# EAGLE library part FFRYDIAU_LINK (library ElectricNoodleBox)
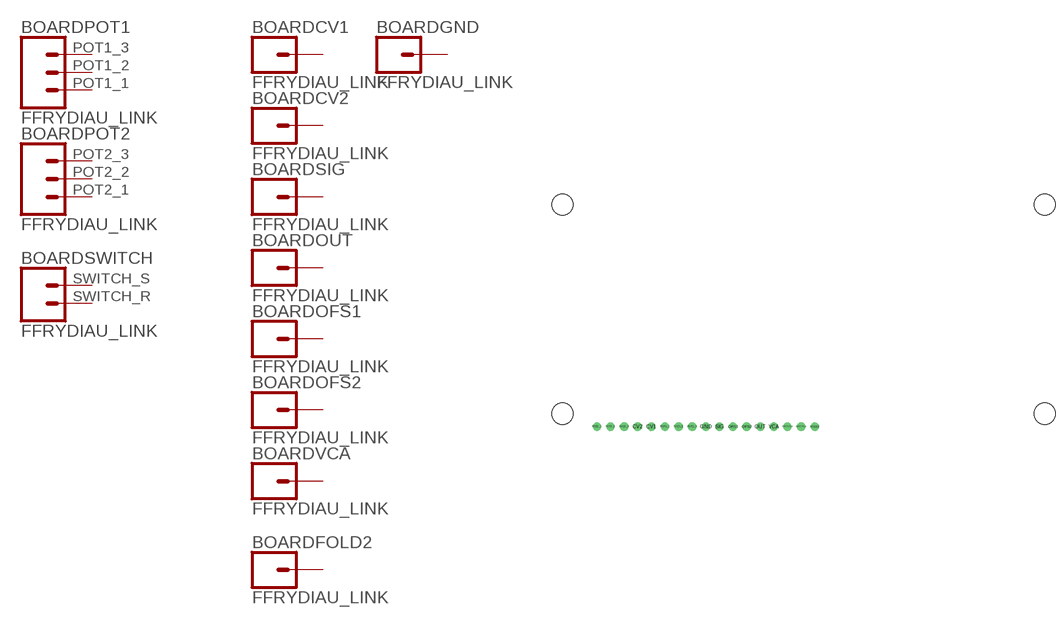
[diagram p26: symbol with the pads of FFRYDIAU; footprint FFRYDIAU]

Designator prefix BOARD; gates POT1=CONN_03 POT2=CONN_03 SWITCH=CONN_02 CV1=CONN_01 CV2=CONN_01 SIG=CONN_01 OUT=CONN_01 OFS1=CONN_01 OFS2=CONN_01 VCA=CONN_01 FOLD2=CONN_01 GND=CONN_01

## FFRYDIAU_LINK  [FFRYDIAU]
CV1  CV1:1  pas
CV2  CV2:1  pas
FOLD2  FOLD2:1  pas
GND  GND:1  pas
OFS1  OFS1:1  pas
OFS2  OFS2:1  pas
OUT  OUT:1  pas
POT1_1  POT1:1  pas
POT1_2  POT1:2  pas
POT1_3  POT1:3  pas
POT2_1  POT2:1  pas
POT2_2  POT2:2  pas
POT2_3  POT2:3  pas
SIG  SIG:1  pas
SWITCH_R  SWITCH:1  pas
SWITCH_S  SWITCH:2  pas
VCA  VCA:1  pas

## Footprint FFRYDIAU (pad centres in mm)
drill 1.016: CV1 21.59,2.54; CV2 19.05,2.54; FOLD2 52.07,2.54; GND 31.75,2.54; OFS1 36.83,2.54; OFS2 39.37,2.54; OUT 41.91,2.54; POT1_1 24.13,2.54; POT1_2 26.67,2.54; POT1_3 29.21,2.54; POT2_1 11.43,2.54; POT2_2 13.97,2.54; POT2_3 16.51,2.54; SIG 34.29,2.54; SWITCH_R 46.99,2.54; SWITCH_S 49.53,2.54; VCA 44.45,2.54
hole 4 at 5,5
hole 4 at 95,5
hole 4 at 95,44
hole 4 at 5,44